# Altium footprint library Custom.PcbLib: 5 footprints
Each footprint in its own frame and in the unit in brackets; x right, y up, seen from the top. Pads: shape width x height; smd on the part's side, far side on the other; paste and mask are expansions set on the pad; w line width, h text height; cw(c..) or ccw(c..) is an arc to the next point about the centre after c.
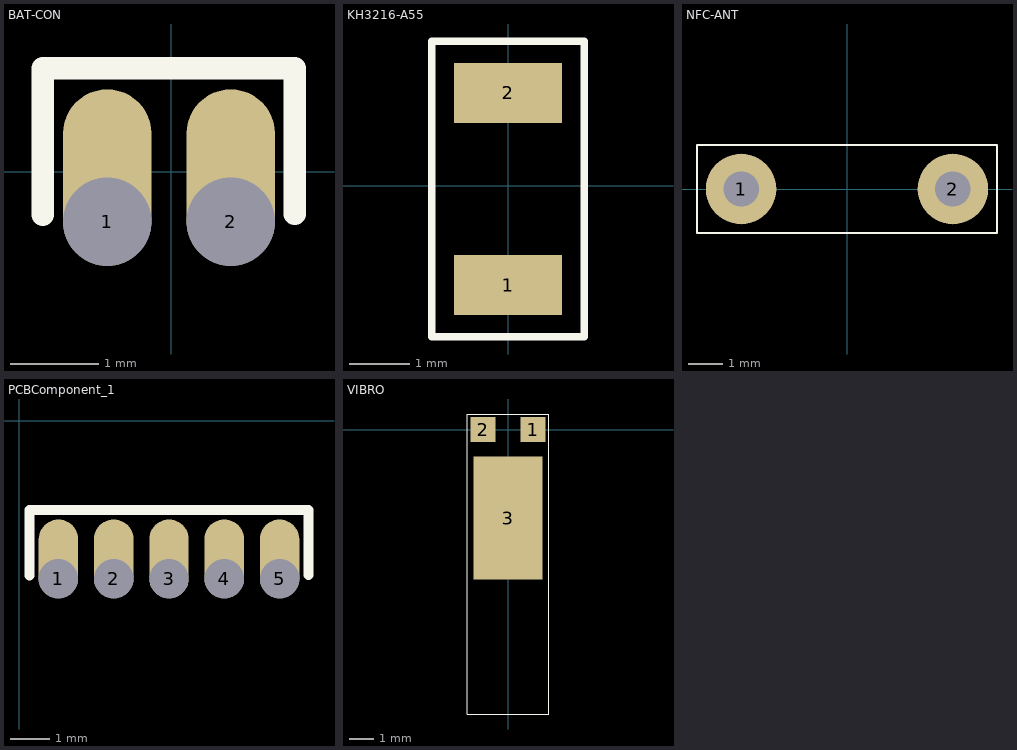
[diagram p0: the footprints below, top view; thin cyan lines are the x and y axes]

## BAT-CON [mm]
pads (2):
  oval 1x2 hole 1 copper offset 0,0.5: 1(-0.723,-0.568) 2(0.677,-0.568)
Top Overlay:
  lines w0.254: -1.453,-0.488 -1.453,1.172 1.4,1.172 1.4,-0.481

## KH3216-A55 [mm]
pads (2):
  rect 1.8x1 smd: 1(0,-1.651) 2(0,1.549)
Top Overlay:
  lines w0.127: -1.27,-2.515 1.27,-2.515 1.27,2.413 -1.27,2.413 -1.27,-2.515

## NFC-ANT [mil]
pads (2):
  round 80 hole 40: 1(-120,0) 2(120,0)
Top Overlay:
  lines w2: -170,-50 170,-50 170,50 -170,50 -170,-50

## PCBComponent_1 [mm]
pads (5):
  oval 1x2 hole 1 copper offset 0,0.5: 1(1,-4) 2(2.4,-4) 3(3.8,-4) 4(5.2,-4) 5(6.6,-4)
Top Overlay:
  lines w0.254: 0.27,-3.92 0.27,-2.26 7.329,-2.26 7.329,-3.914

## VIBRO [mil]
pads (3):
  rect 40x40 smd mask+1: 1(40,0) 2(-40,0)
  rect 110.24x196.85 smd: 3(0,-141.73)
Top Overlay:
  lines w1: -65,-455 65,-455 65,25 -65,25 -65,-455